# EAGLE library part 61000821821 (library Wurth_Elektronik2)
WR-PHD 2.54mm Dual SMT Socket Header, 8 Pins=>Code : Con_BTB_SHD_2.54_1_SMT_61000821821 <http://katalog.we-online.de/media/images/eican/Con_BTB_SHD_2.54_1_SMT_6100xx21821_pf2.jpg> Details see: http://katalog.we-online.de/en/em/610_0xx_218_21 Created 2014-06-03, Karrer Zheng 2014 (C) Würth Elektronik
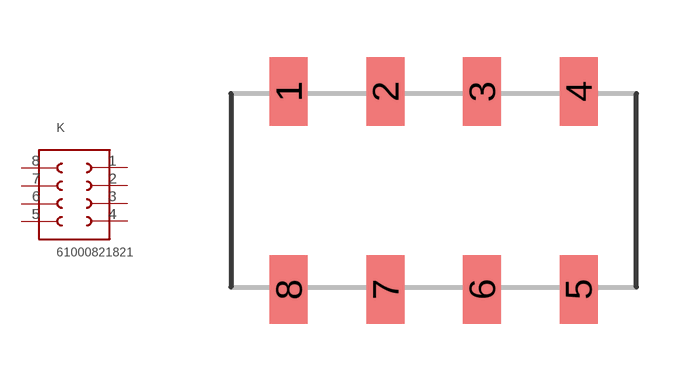
[diagram p213: symbol with the pads of 61000821821; footprint 61000821821]

Designator prefix K

## 61000821821  [61000821821]
1  1  pas
2  2  pas
3  3  pas
4  4  pas
5  5  pas
6  6  pas
7  7  pas
8  8  pas

## Footprint 61000821821 (pad centres in mm)
WR-PHD 2.54mm Dual SMT Socket Header, 8 Pins
smd 1 x 1.8: 1 -3.81,2.6; 2 -1.27,2.6; 3 1.27,2.6; 4 3.81,2.6; 5 3.81,-2.6; 6 1.27,-2.6; 7 -1.27,-2.6; 8 -3.81,-2.6